# Altium schematic symbol library BJT_PNP_BEC.SchLib: 1 symbol
Pins are listed as number, name and electrical type; pins without a type are passive.

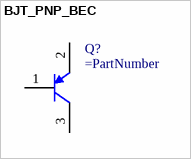
[diagram p0: symbol BJT_PNP_BEC]

## BJT_PNP_BEC
designator Q?
pins: 1 B, 2 E, 3 C